# Altium schematic symbol library PushButton.SchLib: 1 symbol
Pins are listed as number, name and electrical type; pins without a type are passive.

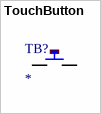
[diagram p0: symbol TouchButton]

## TouchButton
designator TB?
footprint PCBComponent_1
pins: 1 "VSS", 2 "VSS"